# Altium schematic symbol library Connectors.SchLib: 6 symbols
Pins are listed as number, name and electrical type; pins without a type are passive.

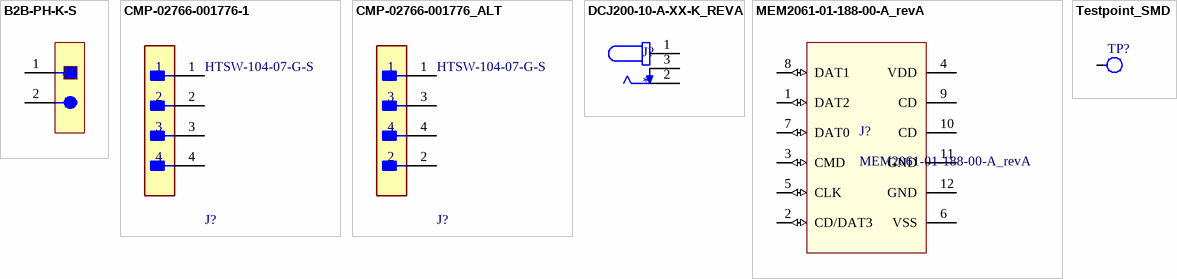
[diagram p0: symbols B2B-PH-K-S to Testpoint_SMD]

## B2B-PH-K-S
designator J?, comment JST CONN  (value not drawn)
CONN JST HEADER VERT 2POS 2MM for LIPO batteries.
footprint JST_B2B-PH-K-S
pins: 1, 2

## CMP-02766-001776-1
designator J?, comment HTSW-104-07-G-S
CONN HEADER VERT 4POS 2.54MM; Gender: Male; Number of Contacts: 4; Packaging: Bulk; RoHS Compliant: Yes; Number of Rows: 1; Mount: Through Hole; Contact Material: Bronze; Series: HTSW; Radiation Hardening: No; Pitch: 2.54mm; Reach SVHC Compliant: Yes; Contact Plating: Gold; Termination: Through Hole
footprint FP-HTSW-104-07-G-S-MFG
pins: 1, 2, 3, 4

## CMP-02766-001776_ALT
designator J?, comment HTSW-104-07-G-S
CONN HEADER VERT 4POS 2.54MM. Versión alterna.; Gender: Male; Number of Contacts: 4; Pitch: 2.54mm; Packaging: Bulk; RoHS Compliant: Yes; Number of Rows: 1; Mount: Through Hole; Contact Material: Bronze; Series: HTSW; Radiation Hardening: No; Reach SVHC Compliant: Yes; Contact Plating: Gold; Termination: Through Hole
footprint FP-HTSW-104-07-G-S-MFG
pins: 1, 2, 3, 4

## DCJ200-10-A-XX-K_REVA
designator J?
Power Barrel Connector Jack 2.05mm ID (0.081), 5.50mm OD (0.217) Through Hole, Right Angle; MF: Global Connector Technology; MP: DCJ200-10-A-K1-K; SnapEDA_Link: https://www.snapeda.com/parts/DCJ200-10-A-K1-K/Global+Connector+Technology/view-part/?ref=snap; Package: None; Value: *; Check_prices: https://www.snapeda.com/parts/DCJ200-10-A-K1-K/Global+Connector+Technology/view-part/?ref=eda
footprint GCT_DCJ200-10-A-XX-K_REVA
pins: 1, 2, 3

## MEM2061-01-188-00-A_revA
designator J?
Micro SD Memory Card Connector, 1.88mm Profile SMT,Push Push, with normally closed switch
footprint MEM2061-01-188-00-A_revA (Micro SD Memory Card Connector, 1.88mm Profile SMT,Push Push, with normally closed switch)
pins: 1 DAT2 (io), 2 CD/DAT3 (io), 3 CMD (io), 4 VDD (power), 5 CLK (io), 6 VSS (power), 7 DAT0 (io), 8 DAT1 (io), 9 CD, 10 CD, 11 GND (power), 12 GND (power)

## Testpoint_SMD
designator TP?, comment Testpoint SMD  (value not drawn)  (no BOM)
Testpoint SMD de 1mm de diametro.
footprint Testpoint_SMD (Testpoint SMD de 1mm de diametro.)
pins: 1